# Altium schematic symbol library Modulator_pLib.SCHLIB: 12 symbols
Pins are listed as number, name and electrical type; pins without a type are passive.

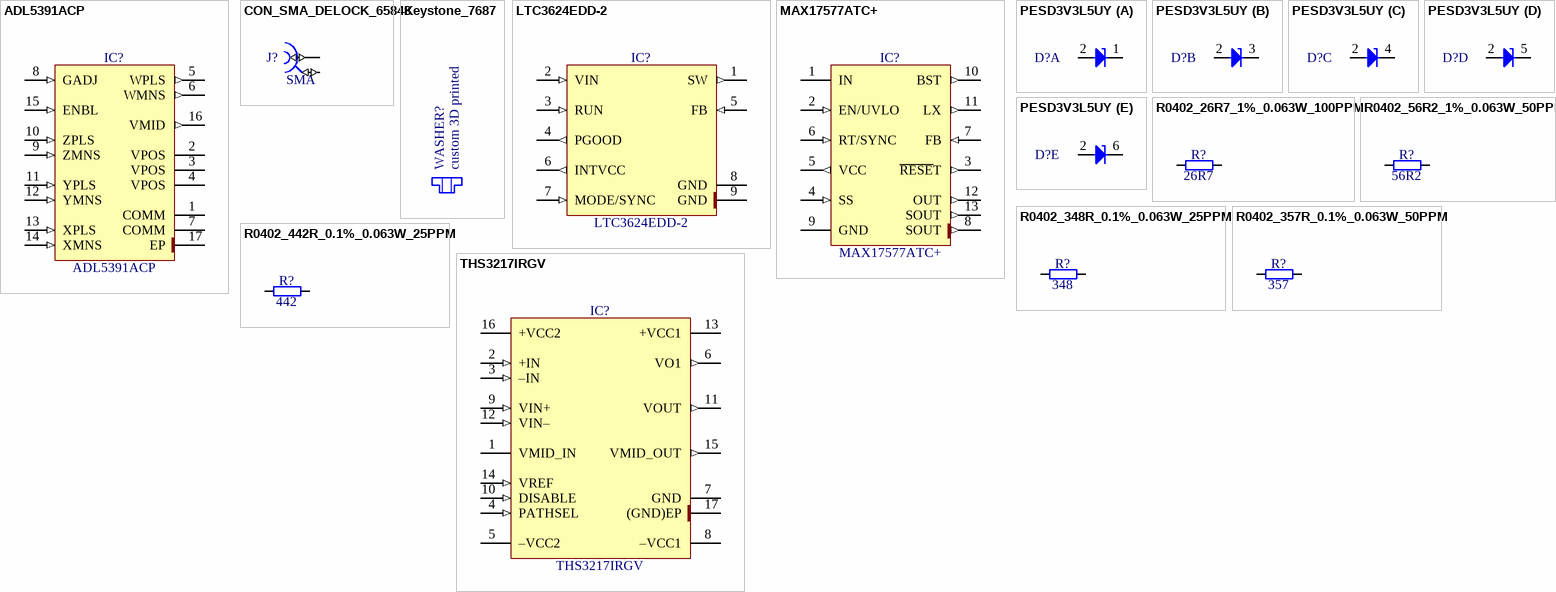
[diagram p0: symbols ADL5391ACP to THS3217IRGV]

## ADL5391ACP
designator IC?
DC to 2.0 GHz Multiplier; Manufacturer: ANALOG DEVICES; PressFit: No; Bonding: No; Part Number: ADL5391ACP; Component Kind: Standard; Component Type: Standard; Device: ADL5391ACP; Footprint: QFN50P300X300X80-17N-S165; PackageDescription: QFN, 0.50mm Pitch, Square; 16 Pin, 3.00mm L X 3.00mm W X 0.80mm H body (w/Thermal Tab 1.65 X 1.65mm), IPC Medium Density; Part Description: DC to 2.0 GHz Multiplier; Manufacturer Part Number: ADL5391ACP; Pin Count: 17; Case: QFN16; Mounted: Yes; Socket: No; SMD: Yes; Sense: No; ComponentHeight: 0.8mm; Author: CERN DEM HF; HelpURL: \\cern.ch\dfs\Applications\Altium\Datasheets\ADL5391.pdf; CreateDate: 03.08.2022; LatestRevisionDate: 03.08.2022
footprint QFN50P300X300X80-17N-S165 (QFN, 0.50mm pitch,square; 4 pin X 4 pin, 3mm X 3mm X 0.80mm H body (w/thermal tab 1.65 X 1.65mm),  IPC Medium Density)
pins: 1 COMM (power), 2 VPOS (power), 3 VPOS (power), 4 VPOS (power), 5 WPLS (out), 6 WMNS (out), 7 COMM (power), 8 GADJ (in), 9 ZMNS (in), 10 ZPLS (in), 11 YPLS (in), 12 YMNS (in), 13 XPLS (in), 14 XMNS (in), 15 ENBL (in), 16 VMID (out), 17 EP (power)

## CON_SMA_DELOCK_65848
designator J?, comment SMA
50 Ohm Through Hole SMA Right Angle PCB Jack; Part Number: DELOCK_65848; Manufacturer: DELOCK; Manufacturer Part Number: 5848 (4043619658480); PressFit: No; Component Kind: Standard; Component Type: Standard; Footprint: DELOCK_65848; Pin Count: 5; Family: SMA; Mounted: Yes; Socket: No; SMD: No; Sense: No; Status: None; Part Description: 50 Ohm Through Hole SMA Right Angle PCB Jack; ComponentHeight: 12.5; HelpURL: \\cern.ch\dfs\Applications\Altium\Datasheets\AMPHENOL_132203-16.pdf; Author: GK; CreateDate: 13.05.2019; LatestRevisionDate: 13.05.2019
footprint DELOCK_65848 (50 Ohm Through Hole SMA Right Angle PCB Jack)
pins: 1 (io), 2 (io)

## Keystone_7687
designator WASHER?, comment custom 3D printed
SMA_Shoulder Washer; Part Description: Polyphenylene Sulfide PPS Shoulder Washer; PressFit: No; Part Number: custom 3D printed; Component Kind: Standard; Component Type: Mechanical; Footprint: custom 3D printed; Pin Count: 0; PackageDescription: custom 3D printed; Mounted: Yes; Socket: No; SMD: No; Sense: No; Status: None; Value: custom 3D printed; Manufacturer: custom; Manufacturer Part Number: custom 3D printed; ComponentHeight: 1.91mm; HelpURL: \\cern.ch\dfs\Applications\Altium\Datasheets\AAVID-THERMALLOY_7721-7PPSG.pdf; Author: GK; CreateDate: 28.01.2016; LatestRevisionDate: 28.01.2016
footprint Keystone_7687 (Polyphenylene Sulfide PPS Shoulder Washer)

## LTC3624EDD-2
designator IC?
Adjustable, 2A, Synchronous Step-Down Regulator with 3.5µA Quiescent Current; Manufacturer: LINEAR TECHNOLOGY; PressFit: No; Bonding: No; Part Number: LTC3624EDD-2; Component Kind: Standard; Component Type: Standard; Device: LTC3624EDD-2; Footprint: SON50P300X300X80-9N-R175X248; PackageDescription: SON, (DFN) 0.50mm Pitch; 8 Pin, 3.00mm W X 3.00mm L X 0.80mm H body (w/Thermal Tab 1.75 X 2.48mm), IPC Medium Density; Part Description: Adjustable, 2A, Synchronous Step-Down Regulator with 3.5µA Quiescent Current; Manufacturer Part Number: LTC3624EDD-2; Pin Count: 9; Case: SON8; Mounted: Yes; Socket: No; SMD: Yes; Sense: No; ComponentHeight: 0.8mm; HelpURL: \\cern.ch\dfs\Applications\Altium\Datasheets\LTC3624.pdf; Author: CERN DEM HF; CreateDate: 18.05.2022; LatestRevisionDate: 18.05.2022
footprint SON50P300X300X80-9N-R175X248
pins: 1 SW (out), 2 VIN (in), 3 RUN (in), 4 PGOOD (out), 5 FB (in), 6 INTVCC (out), 7 MODE/SYNC (in), 8 GND (power), 9 GND (power)

## MAX17577ATC+
designator IC?
4.5V to 60V, 1A High-Efficiency, Synchronous, Inverting Output DC-DC Converters; Manufacturer: MAXIM; PressFit: No; Bonding: No; Part Number: MAX17577ATC+; Component Kind: Standard; Component Type: Standard; Device: MAX17577ATC+; Footprint: SON50P300X300X80-13N-R180X260; PackageDescription: SON, 0.50mm Pitch, 12-Pin, 3.00mm W  X 3.00mm L X 0.80mm H body, (w/Thermal Tab 1.80 X 2.60mm), IPC Medium Density; Part Description: 4.5V to 60V, 1A High-Efficiency, Synchronous, Inverting Output DC-DC Converters; Manufacturer Part Number: MAX17577ATC+; Pin Count: 13; Case: SON12; Mounted: Yes; Socket: No; SMD: Yes; Sense: No; ComponentHeight: 0.8mm; HelpURL: \\cern.ch\dfs\Applications\Altium\Datasheets\MAX17577ATC+.pdf; Author: CERN DEM HF; CreateDate: 22.10.2021; LatestRevisionDate: 22.10.2021
footprint SON50P300X300X80-13N-R180X260 (SON, 0.50mm Pitch, 12-Pin, 3.00mm W  X 3.00mm L X 0.80mm Height, (w/Thermal Tab 1.8 X 2.6 mm), IPC Medium Density)
pins: 1 IN (power) "Input-Power Ground Return", 2 EN/UVLO (in) "Positive Power Input", 3 ~{RESE}T (out), 4 SS (in), 5 VCC (out) "Signal Ground Return", 6 RT/SYNC (in) "Remote Adjust Input", 7 FB (in), 8 SOUT (out) "HV Ground Return", 9 GND (power) "Eout Monitor", 10 BST (out) "HV Output", 11 LX (out) "HV Output", 12 OUT (out), 13 SOUT (out)

## PESD3V3L5UY
designator D?  (value not drawn)
Fivefold ESD Protection Diode Arrays; Part Description: Fivefold ESD Protection Diode Arrays (30kV); Manufacturer: NEXPERIA; Voltage: 3.3V; Power: 200W; PressFit: No; Bonding: No; Part Number: PESD3V3L5UY; Component Kind: Standard; Component Type: Standard; Device: PESD3V3L5UY; Footprint: SOT65P210X110-6N; PackageDescription: SOT363, SC-88, 0.65mm Pitch; 6 Pin, 1.25mm W X 2.00mm L X 1.10mm H body, IPC Medium Density; Manufacturer Part Number: PESD3V3L5UY; Pin Count: 6; Case: SOT363; Mounted: Yes; Socket: No; SMD: Yes; Sense: No; ComponentHeight: 1.1mm; HelpURL: \\cern.ch\dfs\Applications\Altium\Datasheets\PESD3V3L5UY.pdf; Author: CERN DEM WB; CreateDate: 05.07.2021; LatestRevisionDate: 05.07.2021
footprint SOT65P210X110-6N
pins on every part: 2 A
part A pins: 1 C
part B pins: 3 C
part C pins: 4 C
part D pins: 5 C
part E pins: 6 C

## R0402_26R7_1%_0.063W_100PPM
designator R?, comment 26R7
Resistor - 1%; Part Number: R0402_26R7_1%_0.063W_100PPM; Part Description: Thin Film Chip Resistor; Manufacturer: GENERIC; Manufacturer Part Number: R0402_26R7_0.1%_0.063W_25PPM; Manufacturer1 Part Number: CRCW040226R7FKED; TC: ±100ppm; PressFit: No; Component Kind: Standard; Component Type: Standard; Footprint: RESC1005X40N; Pin Count: 2; Value: 26R7; Status: Not Recommended; Case: 0402; Mounted: Yes; Sense: No; Socket: No; SMD: Yes; Manufacturer1 Example: Vishay / Dale; Author: SHA
footprint RESC1005X40N (Chip Resistor, EIA 0402, Metric 1005, Body 1.0x0.5mm, IPC Medium Density)
pins: 1, 2

## R0402_56R2_1%_0.063W_50PPM
designator R?, comment 56R2
Resistor - 1%; Part Number: R0402_56R2_1%_0.063W_50PPM; Part Description: Thin Film Chip Resistor; Manufacturer: GENERIC; Manufacturer1 Part Number: CRT0402-FZ-56R2GLF; TC: ±50ppm; PressFit: No; Component Kind: Standard; Component Type: Standard; Footprint: RESC1005X40N; Pin Count: 2; Value: 56R2; Status: Not Recommended; Manufacturer Part Number: R0402_56R2_1%_0.063W_50PPM; Case: 0402; Mounted: Yes; Sense: No; Socket: No; SMD: Yes; Manufacturer1 Example: Bourns; Author: SHA
footprint RESC1005X40N (Chip Resistor, EIA 0402, Metric 1005, Body 1.0x0.5mm, IPC Medium Density)
pins: 1, 2

## R0402_348R_0.1%_0.063W_25PPM
designator R?, comment 348
Resistor - 0.1%; Part Number: R0402_348R_0.1%_0.063W_25PPM; Part Description: Thin Film Chip Resistor; Manufacturer: GENERIC; Manufacturer1 Part Number: RT0402BRD07348RL; TC: ±25ppm; PressFit: No; Component Kind: Standard; Component Type: Standard; Footprint: RESC1005X40N; Pin Count: 2; Value: 348; Status: Not Recommended; Manufacturer Part Number: R0402_348R_0.1%_0.063W_25PPM; Case: 0402; Mounted: Yes; Sense: No; Socket: No; SMD: Yes; Manufacturer1 Example: YAGEO; Author: SHA
footprint RESC1005X40N (Chip Resistor, EIA 0402, Metric 1005, Body 1.0x0.5mm, IPC Medium Density)
pins: 1, 2

## R0402_357R_0.1%_0.063W_50PPM
designator R?, comment 357
Resistor - 0.1%; Part Number: R0402_357R_0.1%_0.063W_25PPM; Part Description: Thin Film Chip Resistor; Manufacturer: GENERIC; Manufacturer Part Number: R0402_357R_0.1%_0.063W_50PPM; Manufacturer1 Part Number: 1879214-5; TC: ±50ppm; PressFit: No; Component Kind: Standard; Component Type: Standard; Footprint: RESC1005X40N; Pin Count: 2; Value: 357; Status: Not Recommended; Case: 0402; Mounted: Yes; Sense: No; Socket: No; SMD: Yes; Manufacturer1 Example: TE Connectivity / Amp; Author: SHA
footprint RESC1005X40N (Chip Resistor, EIA 0402, Metric 1005, Body 1.0x0.5mm, IPC Medium Density)
pins: 1, 2

## R0402_442R_0.1%_0.063W_25PPM
designator R?, comment 442
Resistor - 0.1%; Part Number: R0402_442R_0.1%_0.063W_25PPM; Part Description: Thin Film Chip Resistor; Manufacturer: GENERIC; Manufacturer1 Part Number: TNPW0402442RBEED; TC: ±25ppm; PressFit: No; Component Kind: Standard; Component Type: Standard; Footprint: RESC1005X40N; Pin Count: 2; Value: 442; Status: Not Recommended; Manufacturer Part Number: R0402_442R_0.1%_0.063W_25PPM; Case: 0402; Mounted: Yes; Sense: No; Socket: No; SMD: Yes; Manufacturer1 Example: Vishay / Dale; Author: SHA
footprint RESC1005X40N (Chip Resistor, EIA 0402, Metric 1005, Body 1.0x0.5mm, IPC Medium Density)
pins: 1, 2

## THS3217IRGV
designator IC?
DC to 800-MHz, Differential-to-Single-Ended, DAC Output Amplifier; Manufacturer: TEXAS INSTRUMENTS; PressFit: No; Bonding: No; Part Number: THS3217IRGV; Component Kind: Standard; Component Type: Standard; Device: THS3217IRGV; Footprint: QFN65P400X400X100-17N-S225; PackageDescription: QFN, 0.65mm Pitch; Square; 16 Pin, 4.00mm L X 4.00mm W X 1.00mm H body (w/Thermal Tab 2.25 X 2.25mm), IPC Medium Density; Part Description: DC to 800-MHz, Differential-to-Single-Ended, DAC Output Amplifier; Manufacturer Part Number: THS3217IRGV; Pin Count: 17; Case: QFN16; Mounted: Yes; Socket: No; SMD: Yes; Sense: No; ComponentHeight: 1mm; Author: CERN DEM HF; HelpURL: \\cern.ch\dfs\Applications\Altium\Datasheets\THS3217.pdf; CreateDate: 22.10.2021; LatestRevisionDate: 22.10.2021
footprint QFN65P400X400X100-17N-S225 (QFN, 0.65mm pitch,square; 4 pin X 4 pin, 4mm X 4mm X 1mm H body (w/thermal tab 2.25 X 2.25mm),  IPC Medium Density)
pins: 1 VMID_IN (power), 2 +IN (in), 3 –IN (in), 4 PATHSEL (in), 5 –VCC2 (power), 6 VO1 (out), 7 GND (power), 8 –VCC1 (power), 9 VIN+ (in), 10 DISABLE (in), 11 VOUT (out), 12 VIN– (in), 13 +VCC1 (power), 14 VREF (in), 15 VMID_OUT (out), 16 +VCC2 (power), 17 (GND)EP (power)